# EAGLE library part SOLDER_PIN_9 (library OpenMotics)
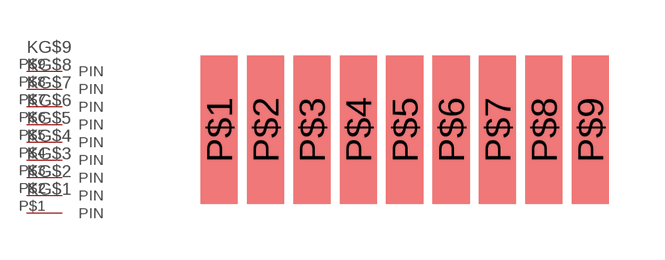
[diagram p38: symbol with the pads of SOLDER_PIN_9; footprint SOLDER_PIN_9]

Designator prefix K; gates G$1=PIN G$2=PIN G$3=PIN G$4=PIN G$5=PIN G$6=PIN G$7=PIN G$8=PIN G$9=PIN

## SOLDER_PIN_9  [SOLDER_PIN_9]
P$1  G$1:PIN
P$2  G$2:PIN
P$3  G$3:PIN
P$4  G$4:PIN
P$5  G$5:PIN
P$6  G$6:PIN
P$7  G$7:PIN
P$8  G$8:PIN
P$9  G$9:PIN

## Footprint SOLDER_PIN_9 (pad centres in mm)
smd 1 x 4: P$1 -5,0; P$2 -3.75,0; P$3 -2.5,0; P$4 -1.25,0; P$5 0,0; P$6 1.25,0; P$7 2.5,0; P$8 3.75,0; P$9 5,0